# Altium footprint library 43045-0411.PcbLib: 1 footprints
Each footprint in its own frame and in the unit in brackets; x right, y up, seen from the top. Pads: shape width x height; smd on the part's side, far side on the other; paste and mask are expansions set on the pad; w line width, h text height; cw(c..) or ccw(c..) is an arc to the next point about the centre after c.
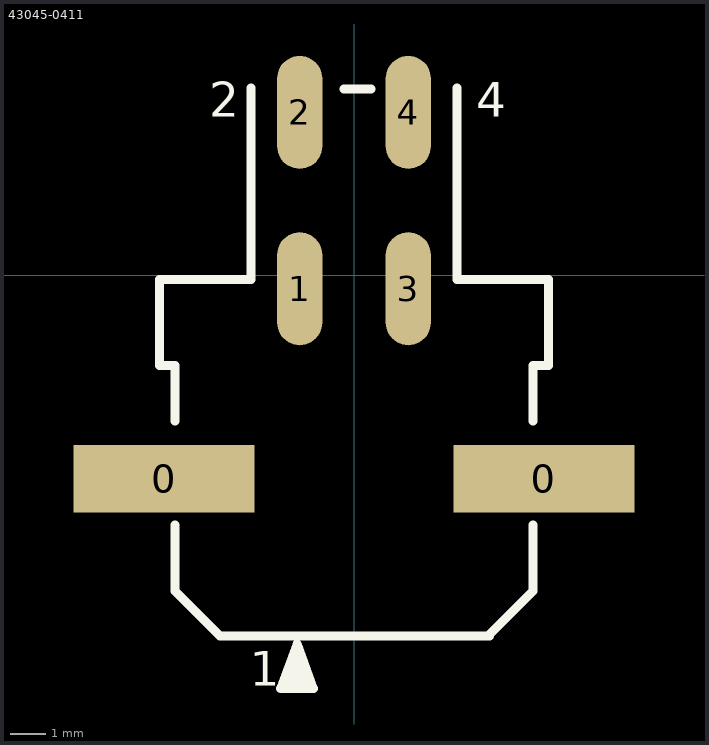
[diagram p0: the footprint, top view; thin cyan lines are the x and y axes]

## 43045-0411 [mil]
pads (6):
  rect 200x75 smd: 0(-210,-225) 0(210,-225)
  oval 50x125 smd: 1(-60,-15) 2(-60,180) 3(60,-15) 4(60,180)
Top Overlay:
  rectangle: -72,-461 -54,-421
  rectangle: -77,-457 -45,-446
  lines w10: -198,-276 -198,-349 -148,-399 150,-399 ; -198,-161 -198,-100 -215,-100 -215,-5 -114,-5 -114,207 ; -46,-457 -81,-457 -63,-408 -45,-457 ; -11,206 19,206 ; 114,207 114,-5 215,-5 215,-100 198,-100 198,-161 ; 148,-399 198,-349 198,-276
  text "4" at 135,175 h38
  text "2" at -160,175 h38
  text "1" at -115,-454 h38
3D body: height 345.35, standoff 0.08, extent -268.7,-406.3 268.7,200